# EAGLE library part TL494CN (library TL494CN)
PULSE-WIDTH-MODULATION CONTROL CIRCUITS Source: Datasheet <http://www.ti.com/lit/gpn/tl494>
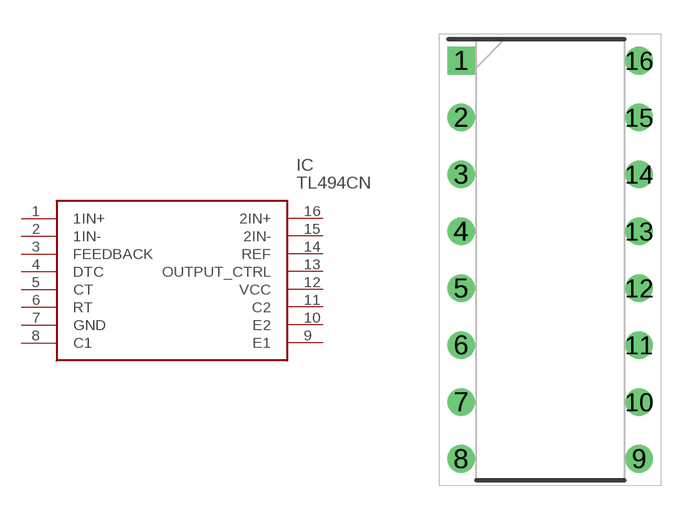
[diagram p0: symbol with the pads of DIP794W53P254L1930H508Q16N; footprint DIP794W53P254L1930H508Q16N]

Designator prefix IC

## TL494CN (Description: PULSE-WIDTH-MODULATION CONTROL CIRCUITS; Height: 5.08mm; Manufacturer_Name: Texas Instruments; Manufacturer_Part_Number: TL494CN; Mouser_Part_Number: 595-TL494CN; Mouser_Price-Stock: https://www.mouser.co.uk/ProductDetail/Texas-Instruments/TL494CN?qs=N6WZOzgtpqWAYQVxthNGyw%3D%3D)  [DIP794W53P254L1930H508Q16N]
1  1IN+
2  1IN-
3  FEEDBACK
4  DTC
5  CT
6  RT
7  GND
8  C1
9  E1
10  E2
11  C2
12  VCC
13  OUTPUT_CTRL
14  REF
15  2IN-
16  2IN+

## Footprint DIP794W53P254L1930H508Q16N (pad centres in mm)
PDIP 16pin
drill 0.73 pad 1.13 square: 1 -3.97,8.89
drill 0.73 pad 1.13: 2 -3.97,6.35; 3 -3.97,3.81; 4 -3.97,1.27; 5 -3.97,-1.27; 6 -3.97,-3.81; 7 -3.97,-6.35; 8 -3.97,-8.89; 9 3.97,-8.89; 10 3.97,-6.35; 11 3.97,-3.81; 12 3.97,-1.27; 13 3.97,1.27; 14 3.97,3.81; 15 3.97,6.35; 16 3.97,8.89